# Altium footprint library ANT-868-HESM.PcbLib: 1 footprints
Each footprint in its own frame and in the unit in brackets; x right, y up, seen from the top. Pads: shape width x height; smd on the part's side, far side on the other; paste and mask are expansions set on the pad; w line width, h text height; cw(c..) or ccw(c..) is an arc to the next point about the centre after c.
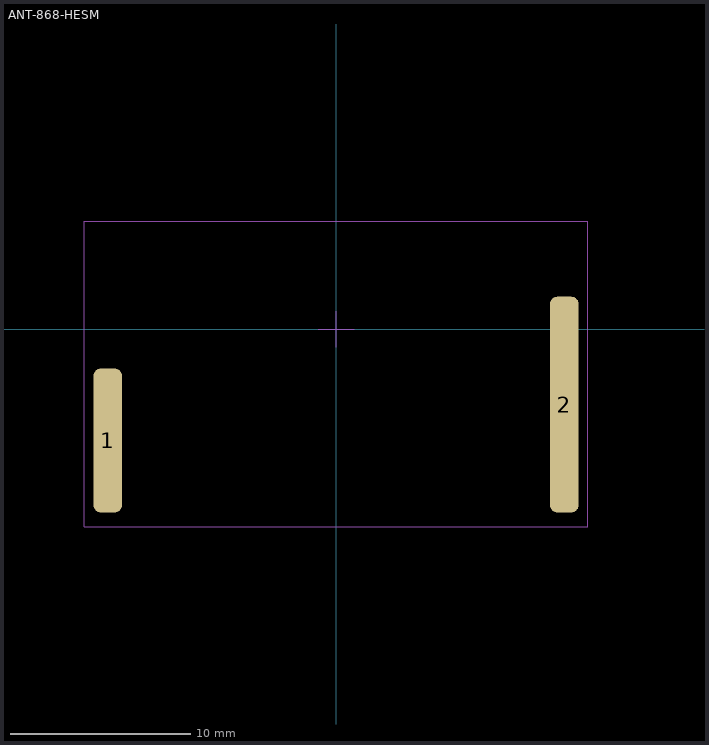
[diagram p0: the footprint, top view; thin cyan lines are the x and y axes]

## ANT-868-HESM [mm]
pads (2):
  rrect50% 1.6x8 smd mask+0.05: 1(-12.7,-6.2)
  rrect50% 1.6x12 smd mask+0.05: 2(12.7,-4.2)
Top Courtyard:
  lines w0.05: -1,0 1,0 ; 0,-1 0,1 ; -14,-11 14,-11 14,6 -14,6 -14,-11
3D body "ANT-868-HESM--3DModel-STEP-56544.STEP": height 9.17, standoff 0.03, extent -13.245,-10.258 13.445,5.744